# EAGLE library part TRINKET (library Scott-MCU)
Adafruit Pro Trinket 3v3 Made by Scott Zhao <https://github.com/zhaomh1998> based on Adafruit Board File <https://github.com/adafruit/Adafruit-Pro-Trinket-PCBs>
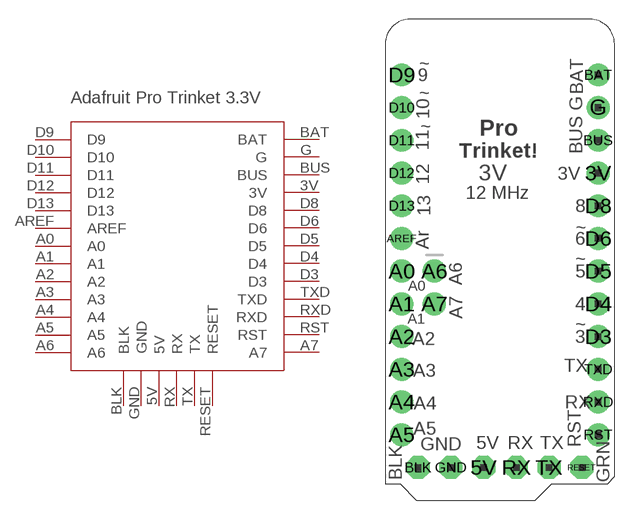
[diagram p0: symbol with the pads of TRINKET; footprint TRINKET]

Designator prefix -

## TRINKET (WEBSITE: https://www.adafruit.com/product/2010)  [TRINKET]
3V  3V
5V  5V
A0  A0
A1  A1
A2  A2
A3  A3
A4  A4
A5  A5
A6  A6
A7  A7
AREF  AREF
BAT  BAT
BLK  BLK
BUS  BUS
D3  D3
D4  D4
D5  D5
D6  D6
D8  D8
D9  D9
D10  D10
D11  D11
D12  D12
D13  D13
G  G
GND  GND
RESET  RESET
RST  RST
RX  RX
RXD  RXD
TX  TX
TXD  TXD

## Footprint TRINKET (pad centres in mm)
Adafruit Pro Trinket 3v3 Made by Scott Zhao <https://github.com/zhaomh1998> based on Adafruit Board File <https://github.com/adafruit/Adafruit-Pro-Trinket-PCBs>
drill 1.016 pad 1.778: 3V 7.62,24.13; A0 -7.62,16.51; A1 -7.62,13.97; A2 -7.62,11.43; A3 -7.62,8.89; A4 -7.62,6.35; A5 -7.62,3.81; AREF -7.62,19.05; BAT 7.62,31.75; BUS 7.62,26.67; D3 7.62,11.43; D4 7.62,13.97; D5 7.62,16.51; D6 7.62,19.05; D8 7.62,21.59; D9 -7.62,31.75; D10 -7.62,29.21; D11 -7.62,26.67; D12 -7.62,24.13; D13 -7.62,21.59; G 7.62,29.21; RST 7.62,3.81; RXD 7.62,6.35; TXD 7.62,8.89
drill 1.016 pad 1.778 octagon: 5V -1.27,1.27; BLK -6.35,1.27; GND -3.81,1.27; RESET 6.35,1.27; RX 1.27,1.27; TX 3.81,1.27
drill 1 pad 1.778: A6 -5.08,16.51; A7 -5.08,13.97